# Altium schematic symbol library Potentiometer.SchLib: 2 symbols
Pins are listed as number, name and electrical type; pins without a type are passive.

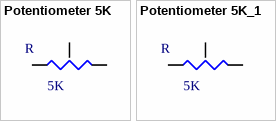
[diagram p0: symbols Potentiometer 5K to Potentiometer 5K_1]

## Potentiometer 5K
designator R  value 5K  (hidden comment: *)
Manufacturer: BOURNS; Manufacturer Code: 3296W-1-502LF; Unit Price: 1,96 €; Farnell Code: 9353291
footprint Vertical Trim Pot
pins: 1, 2, 3

## Potentiometer 5K_1
designator R  value 5K  (hidden comment: *)
Manufacturer: BOURNS; Manufacturer Code: 3296W-1-502LF; Unit Price: 1,96 €; Farnell Code: 9353291
footprint Vertical Trim Pot
pins: 1, 2, 3